# Altium footprint library PcbLib1.PcbLib: 5 footprints
Each footprint in its own frame and in the unit in brackets; x right, y up, seen from the top. Pads: shape width x height; smd on the part's side, far side on the other; paste and mask are expansions set on the pad; w line width, h text height; cw(c..) or ccw(c..) is an arc to the next point about the centre after c.
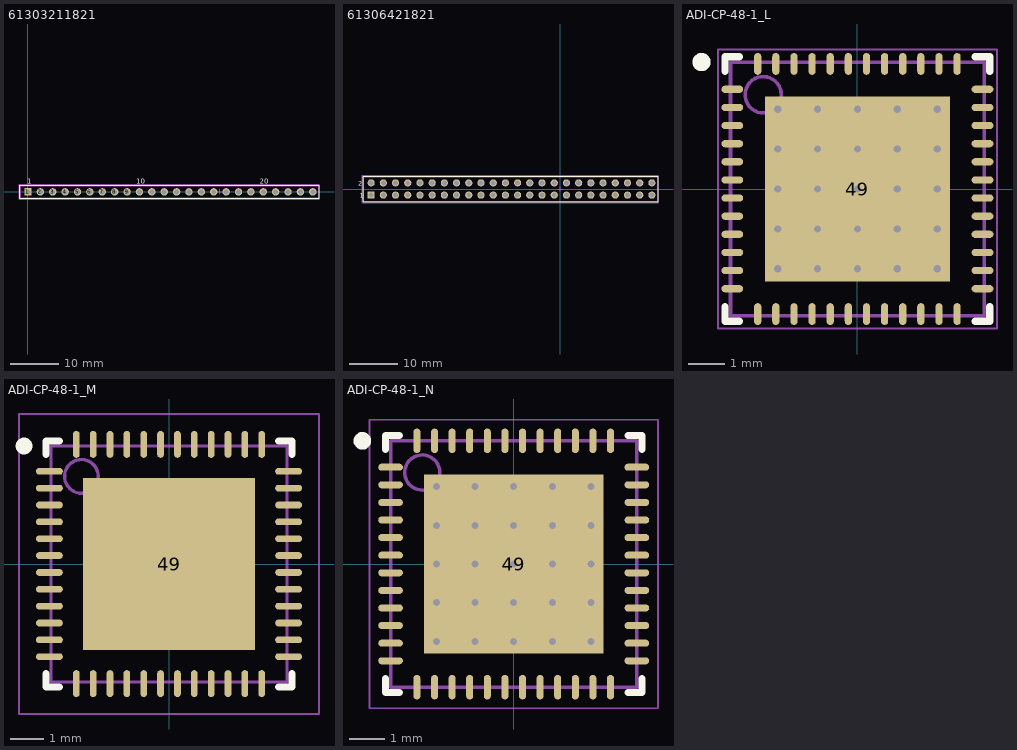
[diagram p0: the footprints below, top view; thin cyan lines are the x and y axes]

## 61303211821 [mm] "Socket Header, Pitch 2.54 mm, THT, Vertical, single row, 32p"
height 8.5
pads (24):
  rect 1.52x1.52 hole 1.02: 1(0,0)
  round 1.52 hole 1.02: 2(2.54,0) 3(5.08,0) 4(7.62,0) 5(10.16,0) 6(12.7,0) 7(15.24,0) 8(17.78,0) 9(20.32,0) 10(22.86,0) 11(25.4,0) 12(27.94,0) 13(30.48,0) 14(33.02,0) 15(35.56,0) 16(38.1,0) 17(40.64,0) 18(43.18,0) 19(45.72,0) 20(48.26,0) 21(50.8,0) 22(53.34,0) 23(55.88,0) 24(58.42,0)
Top Overlay:
  lines w0.2: -1.645,-1.35 59.69,-1.35 59.69,1.35 -1.645,1.35 -1.645,-1.35
  text "1" at -0.19,1.7 h1.02
  text "10" at 22.18,1.7 h1.02
  text "20" at 47.53,1.7 h1.02
Mechanical 13:
  lines w0.1: -1.52,-1.25 59.69,-1.25 59.69,1.25 -1.52,1.25 -1.52,-1.25
Mechanical 15:
  lines w0.05: 38.87,0 39.87,0 ; 39.37,-0.5 39.37,0.5 ; -1.845,-1.55 59.69,-1.55 59.69,1.55 -1.845,1.55 -1.845,-1.55

## 61306421821 [mm] "Socket Header, Pitch 2.54 mm, THT, Vertical, dual row, 64p"
height 8.4
pads (48):
  rect 1.5x1.5 hole 1.02: 1(-39.37,-1.27)
  round 1.5 hole 1.02: 2(-39.37,1.27) 3(-36.83,-1.27) 4(-36.83,1.27) 5(-34.29,-1.27) 6(-34.29,1.27) 7(-31.75,-1.27) 8(-31.75,1.27) 9(-29.21,-1.27) 10(-29.21,1.27) 11(-26.67,-1.27) 12(-26.67,1.27) 13(-24.13,-1.27) 14(-24.13,1.27) 15(-21.59,-1.27) 16(-21.59,1.27) 17(-19.05,-1.27) 18(-19.05,1.27) 19(-16.51,-1.27) 20(-16.51,1.27) 21(-13.97,-1.27) 22(-13.97,1.27) 23(-11.43,-1.27) 24(-11.43,1.27) 25(-8.89,-1.27) 26(-8.89,1.27) 27(-6.35,-1.27) 28(-6.35,1.27) 29(-3.81,-1.27) 30(-3.81,1.27) 31(-1.27,-1.27) 32(-1.27,1.27) 33(1.27,-1.27) 34(1.27,1.27) 35(3.81,-1.27) 36(3.81,1.27) 37(6.35,-1.27) 38(6.35,1.27) 39(8.89,-1.27) 40(8.89,1.27) 41(11.43,-1.27) 42(11.43,1.27) 43(13.97,-1.27) 44(13.97,1.27) 45(16.51,-1.27) 46(16.51,1.27) 47(19.05,-1.27) 48(19.05,1.27)
Top Overlay:
  lines w0.2: -41.015,-2.615 -41.015,2.615 20.32,2.615 20.32,-2.615 -41.015,-2.615
  text "2" at -42.1,0.7 h1.02
  text "1" at -41.7,-1.8 h1.02
Mechanical 13:
  lines w0.1: -40.89,-2.54 20.32,-2.54 20.32,2.54 -40.89,2.54 -40.89,-2.54
Mechanical 15:
  lines w0.05: -0.5,0 0.5,0 ; 0,-0.5 0,0.5 ; -41.215,-2.815 20.32,-2.815 20.32,2.815 -41.215,2.815 -41.215,-2.815

## ADI-CP-48-1_L [mm] "QFN, 48-Leads, Body 7x7mm, Pitch 0.5mm, IPC High Density"
height 1
pads (49):
  oval 0.6x0.2 smd: 1(-3.45,2.75) 2(-3.45,2.25) 3(-3.45,1.75) 4(-3.45,1.25) 5(-3.45,0.75) 6(-3.45,0.25) 7(-3.45,-0.25) 8(-3.45,-0.75) 9(-3.45,-1.25) 10(-3.45,-1.75) 11(-3.45,-2.25) 12(-3.45,-2.75) 25(3.45,-2.75) 26(3.45,-2.25) 27(3.45,-1.75) 28(3.45,-1.25) 29(3.45,-0.75) 30(3.45,-0.25) 31(3.45,0.25) 32(3.45,0.75) 33(3.45,1.25) 34(3.45,1.75) 35(3.45,2.25) 36(3.45,2.75)
  oval 0.2x0.6 smd: 13(-2.75,-3.45) 14(-2.25,-3.45) 15(-1.75,-3.45) 16(-1.25,-3.45) 17(-0.75,-3.45) 18(-0.25,-3.45) 19(0.25,-3.45) 20(0.75,-3.45) 21(1.25,-3.45) 22(1.75,-3.45) 23(2.25,-3.45) 24(2.75,-3.45) 37(2.75,3.45) 38(2.25,3.45) 39(1.75,3.45) 40(1.25,3.45) 41(0.75,3.45) 42(0.25,3.45) 43(-0.25,3.45) 44(-0.75,3.45) 45(-1.25,3.45) 46(-1.75,3.45) 47(-2.25,3.45) 48(-2.75,3.45)
  rect 5.1x5.1 smd: 49(0,0)
via -2.2,2.2 diameter 0.5 hole 0.2
via -1.1,2.2 diameter 0.5 hole 0.2
via 0,2.2 diameter 0.5 hole 0.2
via 1.1,2.2 diameter 0.5 hole 0.2
via 2.2,2.2 diameter 0.5 hole 0.2
via -2.2,1.1 diameter 0.5 hole 0.2
via -1.1,1.1 diameter 0.5 hole 0.2
via 0,1.1 diameter 0.5 hole 0.2
via 1.1,1.1 diameter 0.5 hole 0.2
via 2.2,1.1 diameter 0.5 hole 0.2
via -2.2,0 diameter 0.5 hole 0.2
via -1.1,0 diameter 0.5 hole 0.2
via 0,0 diameter 0.5 hole 0.2
via 1.1,0 diameter 0.5 hole 0.2
via 2.2,0 diameter 0.5 hole 0.2
via -2.2,-1.1 diameter 0.5 hole 0.2
via -1.1,-1.1 diameter 0.5 hole 0.2
via 0,-1.1 diameter 0.5 hole 0.2
via 1.1,-1.1 diameter 0.5 hole 0.2
via 2.2,-1.1 diameter 0.5 hole 0.2
via -2.2,-2.2 diameter 0.5 hole 0.2
via -1.1,-2.2 diameter 0.5 hole 0.2
via 0,-2.2 diameter 0.5 hole 0.2
via 1.1,-2.2 diameter 0.5 hole 0.2
via 2.2,-2.2 diameter 0.5 hole 0.2
Top Overlay:
  circle w0.25: c-4.3,3.5 r0.125
  lines w0.2: -3.65,-3.25 -3.65,-3.65 -3.25,-3.65 ; -3.65,3.25 -3.65,3.65 -3.25,3.65 ; 3.25,-3.65 3.65,-3.65 3.65,-3.25 ; 3.25,3.65 3.65,3.65 3.65,3.25
Mechanical 13:
  circle w0.1: c-2.6,2.6 r0.5
  lines w0.1: -3.5,-3.5 -3.5,3.5 3.5,3.5 3.5,-3.5 -3.5,-3.5
Mechanical 15:
  lines w0.05: -3.85,-3.85 -3.85,3.85 3.85,3.85 3.85,-3.85 -3.85,-3.85
  lines w0.1: -0.5,0 0.5,0 ; 0,-0.5 0,0.5
3D body: height 1, standoff 0, extent -3.5,-3.5 3.5,3.5

## ADI-CP-48-1_M [mm] "QFN, 48-Leads, Body 7x7mm, Pitch 0.5mm, IPC Low Density"
height 1
pads (49):
  oval 0.8x0.2 smd: 1(-3.55,2.75) 2(-3.55,2.25) 3(-3.55,1.75) 4(-3.55,1.25) 5(-3.55,0.75) 6(-3.55,0.25) 7(-3.55,-0.25) 8(-3.55,-0.75) 9(-3.55,-1.25) 10(-3.55,-1.75) 11(-3.55,-2.25) 12(-3.55,-2.75) 25(3.55,-2.75) 26(3.55,-2.25) 27(3.55,-1.75) 28(3.55,-1.25) 29(3.55,-0.75) 30(3.55,-0.25) 31(3.55,0.25) 32(3.55,0.75) 33(3.55,1.25) 34(3.55,1.75) 35(3.55,2.25) 36(3.55,2.75)
  oval 0.2x0.8 smd: 13(-2.75,-3.55) 14(-2.25,-3.55) 15(-1.75,-3.55) 16(-1.25,-3.55) 17(-0.75,-3.55) 18(-0.25,-3.55) 19(0.25,-3.55) 20(0.75,-3.55) 21(1.25,-3.55) 22(1.75,-3.55) 23(2.25,-3.55) 24(2.75,-3.55) 37(2.75,3.55) 38(2.25,3.55) 39(1.75,3.55) 40(1.25,3.55) 41(0.75,3.55) 42(0.25,3.55) 43(-0.25,3.55) 44(-0.75,3.55) 45(-1.25,3.55) 46(-1.75,3.55) 47(-2.25,3.55) 48(-2.75,3.55)
  rect 5.1x5.1 smd: 49(0,0)
Top Overlay:
  circle w0.25: c-4.3,3.5 r0.125
  lines w0.2: -3.65,-3.25 -3.65,-3.65 -3.25,-3.65 ; -3.65,3.25 -3.65,3.65 -3.25,3.65 ; 3.25,-3.65 3.65,-3.65 3.65,-3.25 ; 3.25,3.65 3.65,3.65 3.65,3.25
Mechanical 13:
  circle w0.1: c-2.6,2.6 r0.5
  lines w0.1: -3.5,-3.5 -3.5,3.5 3.5,3.5 3.5,-3.5 -3.5,-3.5
Mechanical 15:
  lines w0.05: -4.45,-4.45 -4.45,4.45 4.45,4.45 4.45,-4.45 -4.45,-4.45
  lines w0.1: -0.5,0 0.5,0 ; 0,-0.5 0,0.5
3D body: height 1, standoff 0, extent -3.5,-3.5 3.5,3.5

## ADI-CP-48-1_N [mm] "QFN, 48-Leads, Body 7x7mm, Pitch 0.5mm, IPC Medium Density"
height 1
pads (49):
  oval 0.7x0.2 smd: 1(-3.5,2.75) 2(-3.5,2.25) 3(-3.5,1.75) 4(-3.5,1.25) 5(-3.5,0.75) 6(-3.5,0.25) 7(-3.5,-0.25) 8(-3.5,-0.75) 9(-3.5,-1.25) 10(-3.5,-1.75) 11(-3.5,-2.25) 12(-3.5,-2.75) 25(3.5,-2.75) 26(3.5,-2.25) 27(3.5,-1.75) 28(3.5,-1.25) 29(3.5,-0.75) 30(3.5,-0.25) 31(3.5,0.25) 32(3.5,0.75) 33(3.5,1.25) 34(3.5,1.75) 35(3.5,2.25) 36(3.5,2.75)
  oval 0.2x0.7 smd: 13(-2.75,-3.5) 14(-2.25,-3.5) 15(-1.75,-3.5) 16(-1.25,-3.5) 17(-0.75,-3.5) 18(-0.25,-3.5) 19(0.25,-3.5) 20(0.75,-3.5) 21(1.25,-3.5) 22(1.75,-3.5) 23(2.25,-3.5) 24(2.75,-3.5) 37(2.75,3.5) 38(2.25,3.5) 39(1.75,3.5) 40(1.25,3.5) 41(0.75,3.5) 42(0.25,3.5) 43(-0.25,3.5) 44(-0.75,3.5) 45(-1.25,3.5) 46(-1.75,3.5) 47(-2.25,3.5) 48(-2.75,3.5)
  rect 5.1x5.1 smd: 49(0,0)
via 2.2,-2.2 diameter 0.5 hole 0.2
via 1.1,-2.2 diameter 0.5 hole 0.2
via 0,-2.2 diameter 0.5 hole 0.2
via -1.1,-2.2 diameter 0.5 hole 0.2
via -2.2,-2.2 diameter 0.5 hole 0.2
via 2.2,-1.1 diameter 0.5 hole 0.2
via 1.1,-1.1 diameter 0.5 hole 0.2
via 0,-1.1 diameter 0.5 hole 0.2
via -1.1,-1.1 diameter 0.5 hole 0.2
via -2.2,-1.1 diameter 0.5 hole 0.2
via 2.2,0 diameter 0.5 hole 0.2
via 1.1,0 diameter 0.5 hole 0.2
via 0,0 diameter 0.5 hole 0.2
via -1.1,0 diameter 0.5 hole 0.2
via -2.2,0 diameter 0.5 hole 0.2
via 2.2,1.1 diameter 0.5 hole 0.2
via 1.1,1.1 diameter 0.5 hole 0.2
via 0,1.1 diameter 0.5 hole 0.2
via -1.1,1.1 diameter 0.5 hole 0.2
via -2.2,1.1 diameter 0.5 hole 0.2
via 2.2,2.2 diameter 0.5 hole 0.2
via 1.1,2.2 diameter 0.5 hole 0.2
via 0,2.2 diameter 0.5 hole 0.2
via -1.1,2.2 diameter 0.5 hole 0.2
via -2.2,2.2 diameter 0.5 hole 0.2
Top Overlay:
  circle w0.25: c-4.3,3.5 r0.125
  lines w0.2: -3.65,-3.25 -3.65,-3.65 -3.25,-3.65 ; -3.65,3.25 -3.65,3.65 -3.25,3.65 ; 3.25,-3.65 3.65,-3.65 3.65,-3.25 ; 3.25,3.65 3.65,3.65 3.65,3.25
Mechanical 13:
  circle w0.1: c-2.6,2.6 r0.5
  lines w0.1: -3.5,-3.5 3.5,-3.5 3.5,3.5 -3.5,3.5 -3.5,-3.5
Mechanical 15:
  lines w0.05: -4.1,-4.1 4.1,-4.1 4.1,4.1 -4.1,4.1 -4.1,-4.1
  lines w0.1: -0.5,0 0.5,0 ; 0,-0.5 0,0.5
3D body: height 1, standoff 0, extent -3.5,-3.5 3.5,3.5